# EAGLE library part RJ45-HR911105A (library Elecrow_Connector)
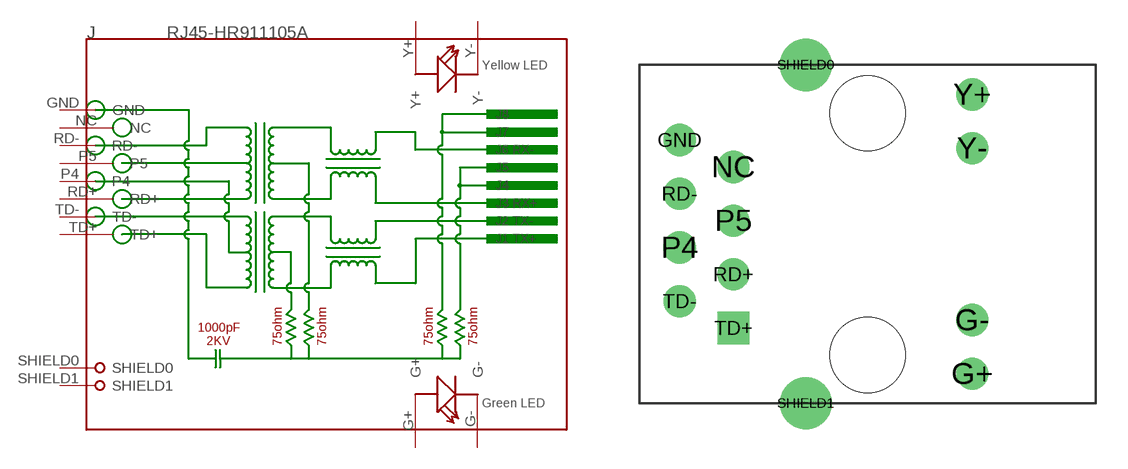
[diagram p6: symbol with the pads of RJ45; footprint RJ45]

Designator prefix J

## RJ45-HR911105A-HR911105A  [RJ45]
G+  G+
G-  G-
GND  GND
NC  NC
P4  P4
P5  P5
RD+  RD+
RD-  RD-
SHIELD0  SHIELD0
SHIELD1  SHIELD1
TD+  TD+
TD-  TD-
Y+  Y+
Y-  Y-

## Footprint RJ45 (pad centres in mm)
drill 0.813 pad 1.524: G+ 4.953,-6.604; G- 4.953,-4.064; GND -8.89,4.445; NC -6.35,3.175; P4 -8.89,-0.635; P5 -6.35,0.635; RD+ -6.35,-1.905; RD- -8.89,1.905; TD- -8.89,-3.175; Y+ 4.953,6.604; Y- 4.953,4.064
drill 1.651 pad 2.159: SHIELD0 -2.921,8.001; SHIELD1 -2.921,-8.001
drill 0.813 pad 1.524 square: TD+ -6.35,-4.445
hole 3.556 at 0,-5.715
hole 3.556 at 0,5.715